# Altium integrated library ST Video H V Processor Deflector.IntLib: 11 symbols
Pins are listed as number, name and electrical type; pins without a type are passive.

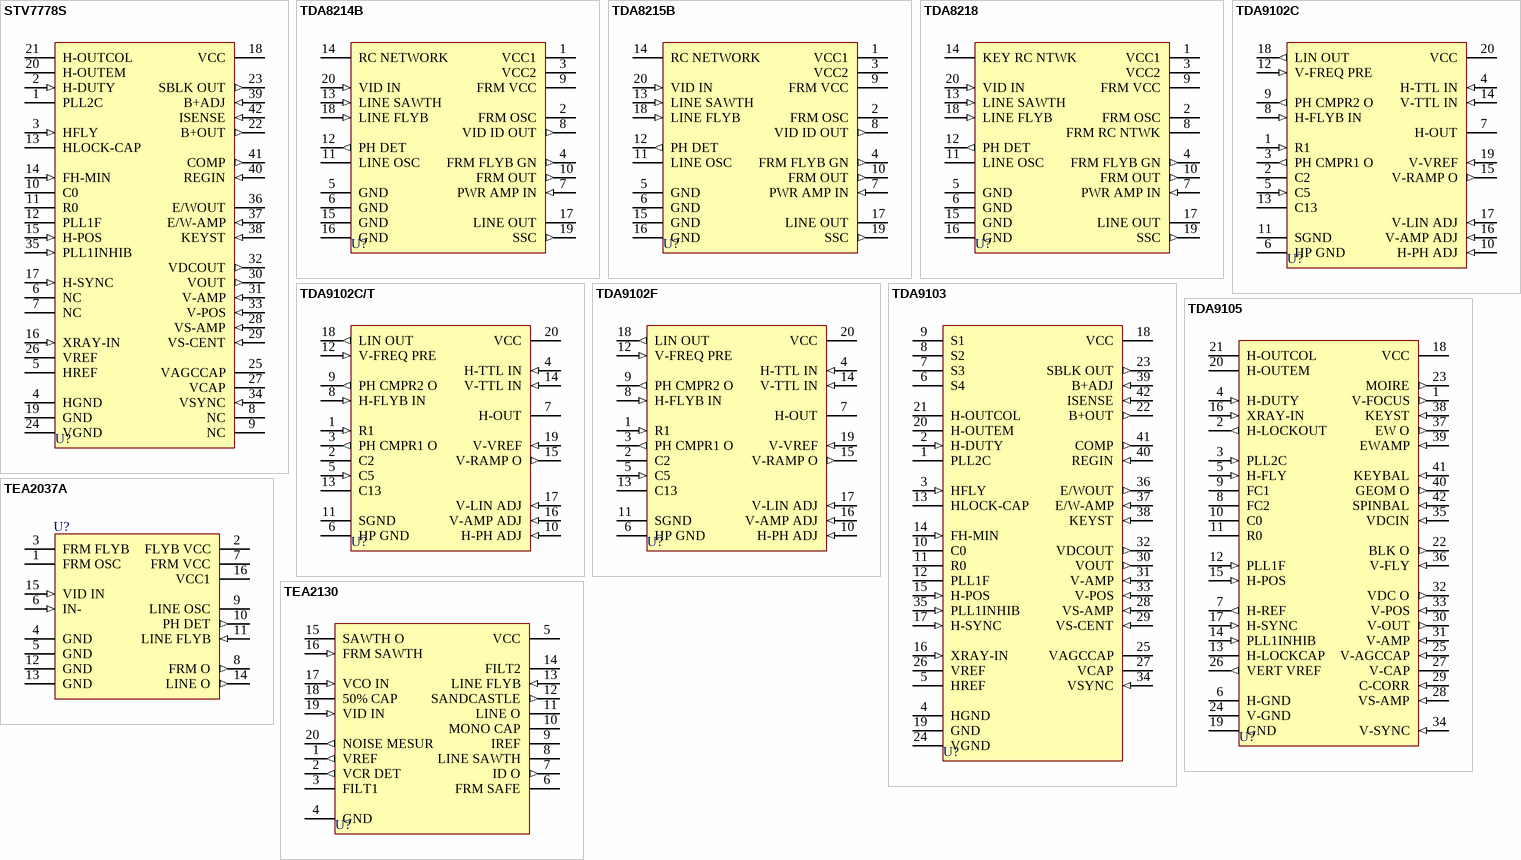
[diagram p0: symbols STV7778S to TEA2130]

## STV7778S
designator U?
Deflection Processor for Multisync Monitor; Published: 24-Aug-2001; LatestRevisionDate: 06-Jun-2005; LatestRevisionNote: Stylized 3D Model Added.; DatasheetVersion: Sep-1998; PackageVersion: Oct-2003; PackageReference: PSDIP42; Publisher: Altium Limited; PackageDescription: DIP, Plastic Shrink; 42 Leads; Row Spacing 15.24 mm; Pitch 1.78 mm; ComponentLink1Description: Manufacturer Link; ComponentLink1URL: http://www.st.com/
footprint PSDIP42 (DIP, Plastic Shrink; 42 Leads; Row Spacing 15.24 mm; Pitch 1.78 mm)
3D model PSDIP42 (DIP, Plastic Shrink; 42 Leads; Row Spacing 15.24 mm; Pitch 1.78 mm)
pins: 1 PLL2C, 2 H-DUTY (in), 3 HFLY (in), 4 HGND (power), 5 HREF, 6 NC, 7 NC, 8 NC, 9 NC, 10 C0, 11 R0, 12 PLL1F, 13 HLOCK-CAP, 14 FH-MIN (in), 15 H-POS (in), 16 XRAY-IN (in), 17 H-SYNC (in), 18 VCC (power), 19 GND (power), 20 H-OUTEM (oe), 21 H-OUTCOL (oc), 22 B+OUT (out), 23 SBLK OUT (out), 24 VGND (power), 25 VAGCCAP, 26 VREF, 27 VCAP, 28 VS-AMP (in), 29 VS-CENT (in), 30 VOUT (out), 31 V-AMP (in), 32 VDCOUT (out), 33 V-POS (in), 34 VSYNC (in), 35 PLL1INHIB (in), 36 E/WOUT (oe), 37 E/W-AMP (in), 38 KEYST (in), 39 B+ADJ (in), 40 REGIN (in), 41 COMP (out), 42 ISENSE (in)

## TDA8214B
designator U?
Horizontal and Vertical Deflection Circuit; Published: 24-Aug-2001; LatestRevisionDate: 06-Jun-2005; LatestRevisionNote: Stylized 3D Model Added.; DatasheetVersion: Sep-1993; PackageVersion: Mar-1995; PackageReference: PwrDIP20; Publisher: Altium Limited; PackageDescription: DIP; 20 Leads; Row Spacing 7.62 mm; Pitch 2.54 mm; ComponentLink1Description: Manufacturer Link; ComponentLink1URL: http://www.st.com/
footprint PwrDIP20 (DIP; 20 Leads; Row Spacing 7.62 mm; Pitch 2.54 mm)
3D model PWRDIP20 (DIP; 20 Leads; Row Spacing 7.62 mm; Pitch 2.54 mm)
pins: 1 VCC1 (power), 2 FRM OSC, 3 VCC2 (power), 4 FRM FLYB GN (out), 5 GND (power), 6 GND (power), 7 PWR AMP IN (in), 8 VID ID OUT (out), 9 FRM VCC (power), 10 FRM OUT (out), 11 LINE OSC, 12 PH DET (out), 13 LINE SAWTH (in), 14 RC NETWORK, 15 GND (power), 16 GND (power), 17 LINE OUT (oc), 18 LINE FLYB (in), 19 SSC (out), 20 VID IN (in)

## TDA8215B
designator U?
Horizontal and Vertical Deflection Circuit; Published: 24-Aug-2001; LatestRevisionDate: 06-Jun-2005; LatestRevisionNote: Stylized 3D Model Added.; DatasheetVersion: Sep-1993; PackageVersion: Mar-1995; PackageReference: PwrDIP20; Publisher: Altium Limited; PackageDescription: DIP; 20 Leads; Row Spacing 7.62 mm; Pitch 2.54 mm; ComponentLink1Description: Manufacturer Link; ComponentLink1URL: http://www.st.com/; ComponentLink2Description: Datasheet; ComponentLink2URL: http://www.st.com/stonline/products/literature/ds/10467/tda8215b.pdf
footprint PwrDIP20 (DIP; 20 Leads; Row Spacing 7.62 mm; Pitch 2.54 mm)
3D model PWRDIP20 (DIP; 20 Leads; Row Spacing 7.62 mm; Pitch 2.54 mm)
pins: 1 VCC1 (power), 2 FRM OSC, 3 VCC2 (power), 4 FRM FLYB GN (out), 5 GND (power), 6 GND (power), 7 PWR AMP IN (in), 8 VID ID OUT (out), 9 FRM VCC (power), 10 FRM OUT (out), 11 LINE OSC, 12 PH DET (out), 13 LINE SAWTH (in), 14 RC NETWORK, 15 GND (power), 16 GND (power), 17 LINE OUT (oc), 18 LINE FLYB (in), 19 SSC (out), 20 VID IN (in)

## TDA8218
designator U?
Horizontal and Vertical Deflection Circuit; Published: 24-Aug-2001; LatestRevisionDate: 06-Jun-2005; LatestRevisionNote: Stylized 3D Model Added.; DatasheetVersion: Sep-1993; PackageVersion: Mar-1995; PackageReference: PwrDIP20; Publisher: Altium Limited; PackageDescription: DIP; 20 Leads; Row Spacing 7.62 mm; Pitch 2.54 mm; ComponentLink1Description: Manufacturer Link; ComponentLink1URL: http://www.st.com/
footprint PwrDIP20 (DIP; 20 Leads; Row Spacing 7.62 mm; Pitch 2.54 mm)
3D model PWRDIP20 (DIP; 20 Leads; Row Spacing 7.62 mm; Pitch 2.54 mm)
pins: 1 VCC1 (power), 2 FRM OSC, 3 VCC2 (power), 4 FRM FLYB GN (out), 5 GND (power), 6 GND (power), 7 PWR AMP IN (in), 8 FRM RC NTWK, 9 FRM VCC (power), 10 FRM OUT (out), 11 LINE OSC, 12 PH DET (out), 13 LINE SAWTH (in), 14 KEY RC NTWK, 15 GND (power), 16 GND (power), 17 LINE OUT (oc), 18 LINE FLYB (in), 19 SSC (out), 20 VID IN (in)

## TDA9102C
designator U?
H/V Processor for TTL V.D.U; Published: 24-Aug-2001; LatestRevisionDate: 06-Jun-2005; LatestRevisionNote: Stylized 3D Model Added.; DatasheetVersion: May-1996; PackageVersion: Mar-1995; PackageReference: PwrDIP20; Publisher: Altium Limited; PackageDescription: DIP; 20 Leads; Row Spacing 7.62 mm; Pitch 2.54 mm; ComponentLink1Description: Manufacturer Link; ComponentLink1URL: http://www.st.com/
footprint PwrDIP20 (DIP; 20 Leads; Row Spacing 7.62 mm; Pitch 2.54 mm)
3D model PWRDIP20 (DIP; 20 Leads; Row Spacing 7.62 mm; Pitch 2.54 mm)
pins: 1 R1 (in), 2 C2, 3 PH CMPR1 O (out), 4 H-TTL IN (in), 5 C5 (in), 6 HP GND (power), 7 H-OUT (oc), 8 H-FLYB IN (in), 9 PH CMPR2 O (out), 10 H-PH ADJ (in), 11 SGND (power), 12 V-FREQ PRE (in), 13 C13, 14 V-TTL IN (in), 15 V-RAMP O (out), 16 V-AMP ADJ (in), 17 V-LIN ADJ (in), 18 LIN OUT (out), 19 V-VREF (in), 20 VCC (power)

## TDA9102C/T
designator U?
H/V Processor for TTL V.D.U; Published: 24-Aug-2001; LatestRevisionDate: 06-Jun-2005; LatestRevisionNote: Stylized 3D Model Added.; DatasheetVersion: May-1994; PackageVersion: Jun-1998; PackageReference: DIP20; Publisher: Altium Limited; PackageDescription: DIP; 20 Leads; Row Spacing 7.62 mm; Pitch 2.54 mm; Code_JEDEC: MS-015-AE; ComponentLink1Description: Manufacturer Link; ComponentLink1URL: http://www.st.com/
footprint DIP20 (DIP; 20 Leads; Row Spacing 7.62 mm; Pitch 2.54 mm)
3D model DIP20 (DIP; 20 Leads; Row Spacing 7.62 mm; Pitch 2.54 mm)
pins: 1 R1 (in), 2 C2, 3 PH CMPR1 O (out), 4 H-TTL IN (in), 5 C5 (in), 6 HP GND (power), 7 H-OUT (oc), 8 H-FLYB IN (in), 9 PH CMPR2 O (out), 10 H-PH ADJ (in), 11 SGND (power), 12 V-FREQ PRE (in), 13 C13, 14 V-TTL IN (in), 15 V-RAMP O (out), 16 V-AMP ADJ (in), 17 V-LIN ADJ (in), 18 LIN OUT (out), 19 V-VREF (in), 20 VCC (power)

## TDA9102F
designator U?
H/V Processor for TTL V.D.U; Published: 24-Aug-2001; LatestRevisionDate: 06-Jun-2005; LatestRevisionNote: Stylized 3D Model Added.; DatasheetVersion: May-1994; PackageVersion: Mar-1995; PackageReference: PwrDIP20; Publisher: Altium Limited; PackageDescription: DIP; 20 Leads; Row Spacing 7.62 mm; Pitch 2.54 mm; ComponentLink1Description: Manufacturer Link; ComponentLink1URL: http://www.st.com/
footprint PwrDIP20 (DIP; 20 Leads; Row Spacing 7.62 mm; Pitch 2.54 mm)
3D model PWRDIP20 (DIP; 20 Leads; Row Spacing 7.62 mm; Pitch 2.54 mm)
pins: 1 R1 (in), 2 C2, 3 PH CMPR1 O (out), 4 H-TTL IN (in), 5 C5 (in), 6 HP GND (power), 7 H-OUT (oc), 8 H-FLYB IN (in), 9 PH CMPR2 O (out), 10 H-PH ADJ (in), 11 SGND (power), 12 V-FREQ PRE (in), 13 C13, 14 V-TTL IN (in), 15 V-RAMP O (out), 16 V-AMP ADJ (in), 17 V-LIN ADJ (in), 18 LIN OUT (out), 19 V-VREF (in), 20 VCC (power)

## TDA9103
designator U?
Deflection Processor for Multisync Monitor; Published: 24-Aug-2001; LatestRevisionDate: 06-Jun-2005; LatestRevisionNote: Stylized 3D Model Added.; DatasheetVersion: May-1996; PackageVersion: Oct-2003; PackageReference: PSDIP42; Publisher: Altium Limited; PackageDescription: DIP, Plastic Shrink; 42 Leads; Row Spacing 15.24 mm; Pitch 1.78 mm; ComponentLink1Description: Manufacturer Link; ComponentLink1URL: http://www.st.com/
footprint PSDIP42 (DIP, Plastic Shrink; 42 Leads; Row Spacing 15.24 mm; Pitch 1.78 mm)
3D model PSDIP42 (DIP, Plastic Shrink; 42 Leads; Row Spacing 15.24 mm; Pitch 1.78 mm)
pins: 1 PLL2C, 2 H-DUTY (in), 3 HFLY (in), 4 HGND (power), 5 HREF, 6 S4, 7 S3, 8 S2, 9 S1, 10 C0, 11 R0, 12 PLL1F, 13 HLOCK-CAP, 14 FH-MIN (in), 15 H-POS (in), 16 XRAY-IN (in), 17 H-SYNC (in), 18 VCC (power), 19 GND (power), 20 H-OUTEM (oe), 21 H-OUTCOL (oc), 22 B+OUT (out), 23 SBLK OUT (out), 24 VGND (power), 25 VAGCCAP, 26 VREF, 27 VCAP, 28 VS-AMP (in), 29 VS-CENT (in), 30 VOUT (out), 31 V-AMP (in), 32 VDCOUT (out), 33 V-POS (in), 34 VSYNC (in), 35 PLL1INHIB (in), 36 E/WOUT (out), 37 E/W-AMP (in), 38 KEYST (in), 39 B+ADJ (in), 40 REGIN (in), 41 COMP (out), 42 ISENSE (in)

## TDA9105
designator U?
Deflection Processor for Multisync Monitor; Published: 24-Aug-2001; LatestRevisionDate: 06-Jun-2005; LatestRevisionNote: Stylized 3D Model Added.; DatasheetVersion: Jun-1996; PackageVersion: Oct-2003; PackageReference: PSDIP42; Publisher: Altium Limited; PackageDescription: DIP, Plastic Shrink; 42 Leads; Row Spacing 15.24 mm; Pitch 1.78 mm; ComponentLink1Description: Manufacturer Link; ComponentLink1URL: http://www.st.com/
footprint PSDIP42 (DIP, Plastic Shrink; 42 Leads; Row Spacing 15.24 mm; Pitch 1.78 mm)
3D model PSDIP42 (DIP, Plastic Shrink; 42 Leads; Row Spacing 15.24 mm; Pitch 1.78 mm)
pins: 1 V-FOCUS (out), 2 H-LOCKOUT (out), 3 PLL2C (in), 4 H-DUTY (in), 5 H-FLY (in), 6 H-GND (power), 7 H-REF (out), 8 FC2, 9 FC1, 10 C0, 11 R0, 12 PLL1F (in), 13 H-LOCKCAP, 14 PLL1INHIB (in), 15 H-POS (in), 16 XRAY-IN (in), 17 H-SYNC (in), 18 VCC (power), 19 GND (power), 20 H-OUTEM (oe), 21 H-OUTCOL (oc), 22 BLK O (out), 23 MOIRE (out), 24 V-GND (power), 25 V-AGCCAP (in), 26 VERT VREF (out), 27 V-CAP, 28 VS-AMP (in), 29 C-CORR (in), 30 V-OUT (out), 31 V-AMP (in), 32 VDC O (out), 33 V-POS (in), 34 V-SYNC (in), 35 VDCIN (in), 36 V-FLY (in), 37 EW O (out), 38 KEYST (in), 39 EWAMP (in), 40 GEOM O (out), 41 KEYBAL (in), 42 SPINBAL (in)

## TEA2037A
designator U?
Horizontal and Vertical Deflection Monitor; Published: 24-Aug-2001; LatestRevisionDate: 06-Jun-2005; LatestRevisionNote: Stylized 3D Model Added.; DatasheetVersion: Sep-1996; PackageVersion: Apr-1996; PackageReference: DIP16; Publisher: Altium Limited; PackageDescription: DIP; 16 Leads; Row Spacing 7.62 mm; Pitch 2.54 mm; ComponentLink1Description: Manufacturer Link; ComponentLink1URL: http://www.st.com/
footprint DIP16 (DIP; 16 Leads; Row Spacing 7.62 mm; Pitch 2.54 mm)
3D model DIP16 (DIP; 16 Leads; Row Spacing 7.62 mm; Pitch 2.54 mm)
pins: 1 FRM OSC, 2 FLYB VCC (power), 3 FRM FLYB, 4 GND (power), 5 GND (power), 6 IN- (in), 7 FRM VCC (power), 8 FRM O (out), 9 LINE OSC, 10 PH DET (out), 11 LINE FLYB (in), 12 GND (power), 13 GND (power), 14 LINE O (out), 15 VID IN (in), 16 VCC1 (power)

## TEA2130
designator U?
TV and Satellite Decoder Scanning Processor; Published: 24-Aug-2001; LatestRevisionDate: 06-Jun-2005; LatestRevisionNote: Stylized 3D Model Added.; DatasheetVersion: Sep-1993; PackageVersion: Jun-1998; PackageReference: DIP20; Publisher: Altium Limited; PackageDescription: DIP; 20 Leads; Row Spacing 7.62 mm; Pitch 2.54 mm; Code_JEDEC: MS-015-AE; ComponentLink1Description: Manufacturer Link; ComponentLink1URL: http://www.st.com/
footprint DIP20 (DIP; 20 Leads; Row Spacing 7.62 mm; Pitch 2.54 mm)
3D model DIP20 (DIP; 20 Leads; Row Spacing 7.62 mm; Pitch 2.54 mm)
pins: 1 VREF (out), 2 VCR DET (out), 3 FILT1, 4 GND (power), 5 VCC (power), 6 FRM SAFE, 7 ID O (out), 8 LINE SAWTH, 9 IREF, 10 MONO CAP, 11 LINE O (oc), 12 SANDCASTLE (out), 13 LINE FLYB (in), 14 FILT2, 15 SAWTH O (oe), 16 FRM SAWTH (in), 17 VCO IN (in), 18 50% CAP, 19 VID IN (in), 20 NOISE MESUR (out)